# Altium schematic symbol library IC.SchLib: 22 symbols
Pins are listed as number, name and electrical type; pins without a type are passive.

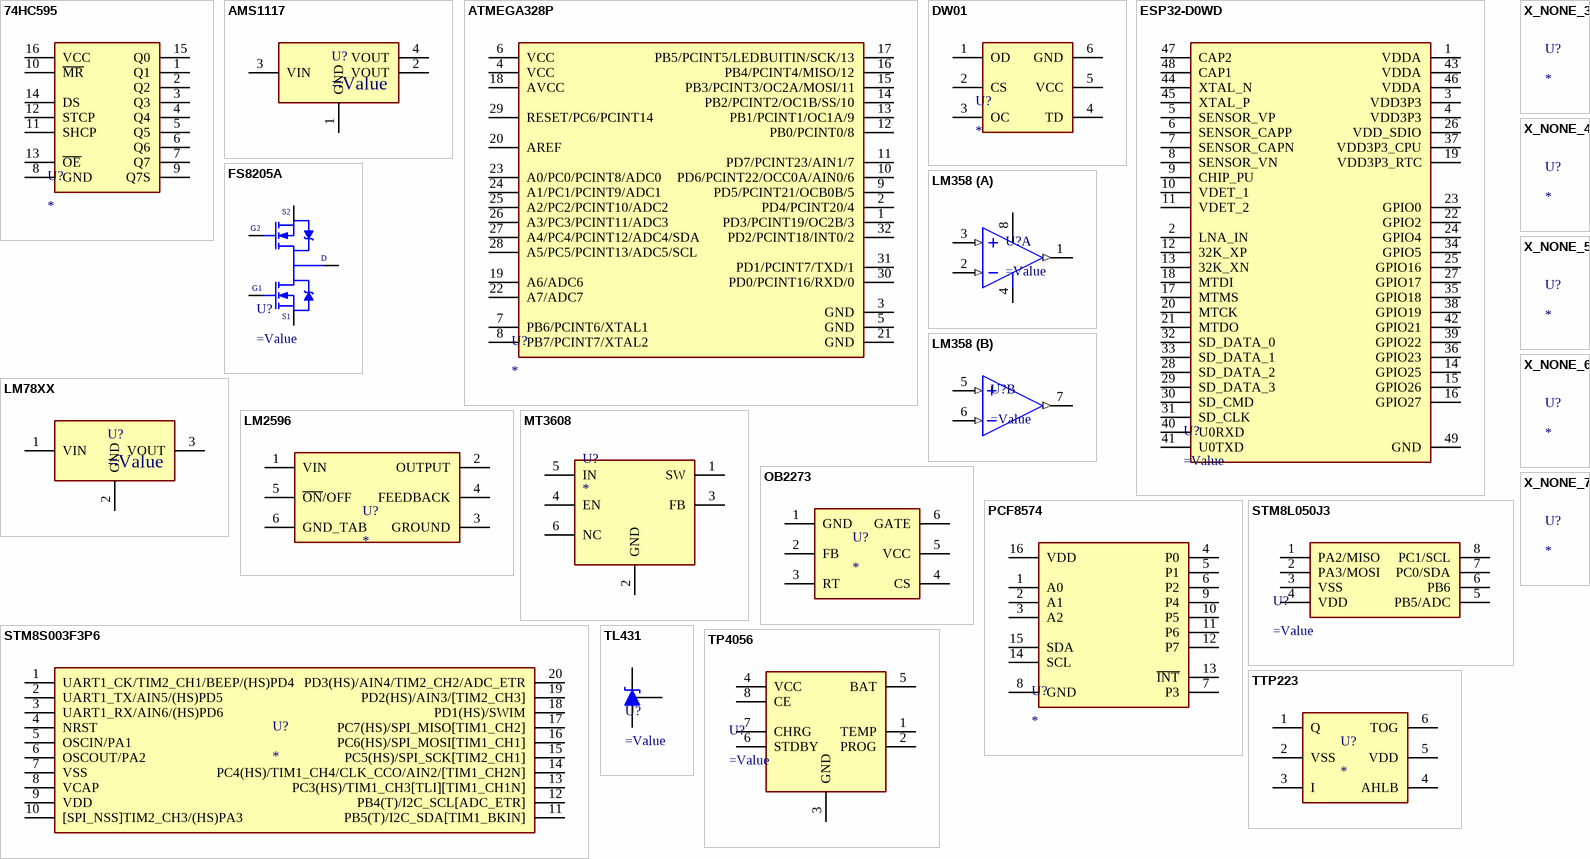
[diagram p0: symbols 74HC595 to X_NONE_7]

## 74HC595
designator U?
=Description; MP: STM8S003F3P6; MF: STMicroelectronics; Availability: Unavailable; SnapEDA_Link: https://www.snapeda.com/parts/STM8S003F3P6/STMicroelectronics/view-part/47650/?ref=snap; Price: None; Value: *; Package: TSSOP-20 STMicroelectronics
footprint TSSOP20
pins: 1 Q1, 2 Q2, 3 Q3, 4 Q4, 5 Q5, 6 Q6, 7 Q7, 8 GND, 9 Q7S, 10 ~{MR}, 11 SHCP, 12 STCP, 13 ~{OE}, 14 DS, 15 Q0, 16 VCC

## AMS1117
designator U?
=Description
pins: 1 GND (power), 2 VOUT, 3 VIN, 4 VOUT

## ATMEGA328P
designator U?
=Description; MP: STM8S003F3P6; MF: STMicroelectronics; Availability: Unavailable; SnapEDA_Link: https://www.snapeda.com/parts/STM8S003F3P6/STMicroelectronics/view-part/47650/?ref=snap; Price: None; Value: *; Package: TSSOP-20 STMicroelectronics
footprint TSSOP20
pins: 1 PD3/PCINT19/OC2B/3, 2 PD4/PCINT20/4, 3 GND, 4 VCC, 5 GND, 6 VCC, 7 PB6/PCINT6/XTAL1, 8 PB7/PCINT7/XTAL2, 9 PD5/PCINT21/OCB0B/5, 10 PD6/PCINT22/OCC0A/AIN0/6, 11 PD7/PCINT23/AIN1/7, 12 PB0/PCINT0/8, 13 PB1/PCINT1/OC1A/9, 14 PB2/PCINT2/OC1B/SS/10, 15 PB3/PCINT3/OC2A/MOSI/11, 16 PB4/PCINT4/MISO/12, 17 PB5/PCINT5/LEDBUITIN/SCK/13, 18 AVCC, 19 A6/ADC6, 20 AREF, 21 GND, 22 A7/ADC7, 23 A0/PC0/PCINT8/ADC0, 24 A1/PC1/PCINT9/ADC1, 25 A2/PC2/PCINT10/ADC2, 26 A3/PC3/PCINT11/ADC3, 27 A4/PC4/PCINT12/ADC4/SDA, 28 A5/PC5/PCINT13/ADC5/SCL, 29 RESET/PC6/PCINT14, 30 PD0/PCINT16/RXD/0, 31 PD1/PCINT7/TXD/1, 32 PD2/PCINT18/INT0/2

## DW01
designator U?
Lithium Protection DW01
pins: 1 OD, 2 CS, 3 OC, 4 TD, 5 VCC, 6 GND

## ESP32-D0WD
designator U?
=Description
pins: 1 VDDA (power), 2 LNA_IN, 3 VDD3P3 (power), 4 VDD3P3 (power), 5 SENSOR_VP, 6 SENSOR_CAPP, 7 SENSOR_CAPN, 8 SENSOR_VN, 9 CHIP_PU, 10 VDET_1, 11 VDET_2, 12 32K_XP, 13 32K_XN, 14 GPIO25, 15 GPIO26, 16 GPIO27, 17 MTMS, 18 MTDI, 19 VDD3P3_RTC (power), 20 MTCK, 21 MTDO, 22 GPIO2, 23 GPIO0, 24 GPIO4, 25 GPIO16, 26 VDD_SDIO (power), 27 GPIO17, 28 SD_DATA_2, 29 SD_DATA_3, 30 SD_CMD, 31 SD_CLK, 32 SD_DATA_0, 33 SD_DATA_1, 34 GPIO5, 35 GPIO18, 36 GPIO23, 37 VDD3P3_CPU (power), 38 GPIO19, 39 GPIO22, 40 U0RXD, 41 U0TXD, 42 GPIO21, 43 VDDA (power), 44 XTAL_N, 45 XTAL_P, 46 VDDA (power), 47 CAP2, 48 CAP1, 49 GND (power)

## FS8205A
designator U?
=Description
pins: 1 D12, 2 S1, 3 S1, 4 G1, 5 G2, 6 S2, 7 S2, 8 D12
text: D

## LM78XX
designator U?
=Description
pins: 1 VIN, 2 GND (power), 3 VOUT

## LM358
designator U?
=Description
part A pins: 1 OUT (out), 2 IN- (in), 3 IN+ (in), 4 -V, 8 +V
part B pins: 5 IN+ (in), 6 IN- (in), 7 OUT (out)

## LM2596
designator U?
=Description; MP: STM8S003F3P6; MF: STMicroelectronics; Availability: Unavailable; SnapEDA_Link: https://www.snapeda.com/parts/STM8S003F3P6/STMicroelectronics/view-part/47650/?ref=snap; Price: None; Value: *; Package: TSSOP-20 STMicroelectronics
footprint TSSOP20
pins: 1 VIN, 2 OUTPUT, 3 GROUND (power), 4 FEEDBACK, 5 ~{ON}/OFF, 6 GND_TAB (power)

## MT3608
designator U?
=Description; MF: Aerosemi Technology Co., Ltd; MP: MT3608; Package: Package Analog Devices; Availability: Unavailable; Value: *; SnapEDA_Link: https://www.snapeda.com/parts/MT3608/Aerosemi%20Technology%20Co.%2C%20Ltd/view-part/3218014/?ref=snap; Price: None
pins: 1 SW, 2 GND, 3 FB, 4 EN, 5 IN, 6 NC

## OB2273
designator U?
=Description; MP: STM8S003F3P6; MF: STMicroelectronics; Availability: Unavailable; SnapEDA_Link: https://www.snapeda.com/parts/STM8S003F3P6/STMicroelectronics/view-part/47650/?ref=snap; Price: None; Value: *; Package: TSSOP-20 STMicroelectronics
pins: 1 GND, 2 FB, 3 RT, 4 CS, 5 VCC, 6 GATE

## PCF8574
designator U?
=Description; MP: STM8S003F3P6; MF: STMicroelectronics; Availability: Unavailable; SnapEDA_Link: https://www.snapeda.com/parts/STM8S003F3P6/STMicroelectronics/view-part/47650/?ref=snap; Price: None; Value: *; Package: TSSOP-20 STMicroelectronics
footprint TSSOP20
pins: 1 A0, 2 A1, 3 A2, 4 P0, 5 P1, 6 P2, 7 P3, 8 GND, 9 P4, 10 P5, 11 P6, 12 P7, 13 ~{INT}, 14 SCL, 15 SDA, 16 VDD

## STM8L050J3
designator U?
=Description
pins: 1 PA2/MISO, 2 PA3/MOSI, 3 VSS, 4 VDD, 5 PB5/ADC, 6 PB6, 7 PC0/SDA, 8 PC1/SCL

## STM8S003F3P6
designator U?
=Description; MP: STM8S003F3P6; MF: STMicroelectronics; Availability: Unavailable; SnapEDA_Link: https://www.snapeda.com/parts/STM8S003F3P6/STMicroelectronics/view-part/47650/?ref=snap; Price: None; Value: *; Package: TSSOP-20 STMicroelectronics
pins: 1 UART1_CK/TIM2_CH1/BEEP/(HS)PD4, 2 UART1_TX/AIN5/(HS)PD5, 3 UART1_RX/AIN6/(HS)PD6, 4 NRST, 5 OSCIN/PA1, 6 OSCOUT/PA2, 7 VSS, 8 VCAP, 9 VDD, 10 [SPI_NSS]TIM2_CH3/(HS)PA3, 11 PB5(T)/I2C_SDA[TIM1_BKIN], 12 PB4(T)/I2C_SCL[ADC_ETR], 13 PC3(HS)/TIM1_CH3[TLI][TIM1_CH1N], 14 PC4(HS)/TIM1_CH4/CLK_CCO/AIN2/[TIM1_CH2N], 15 PC5(HS)/SPI_SCK[TIM2_CH1], 16 PC6(HS)/SPI_MOSI[TIM1_CH1], 17 PC7(HS)/SPI_MISO[TIM1_CH2], 18 PD1(HS)/SWIM, 19 PD2(HS)/AIN3/[TIM2_CH3], 20 PD3(HS)/AIN4/TIM2_CH2/ADC_ETR

## TL431
designator U?
=Description
pins: A, C, R

## TP4056
designator U?
=Description
pins: 1 TEMP, 2 PROG, 3 GND, 4 VCC, 5 BAT, 6 STDBY "Led báo đầy", 7 CHRG "Led báo sạc", 8 CE

## TTP223
designator U?
=Description; MP: STM8S003F3P6; MF: STMicroelectronics; Availability: Unavailable; SnapEDA_Link: https://www.snapeda.com/parts/STM8S003F3P6/STMicroelectronics/view-part/47650/?ref=snap; Price: None; Value: *; Package: TSSOP-20 STMicroelectronics
footprint TSSOP20
pins: 1 Q, 2 VSS, 3 I, 4 AHLB, 5 VDD, 6 TOG

## X_NONE_3
designator U?
=Description; MP: STM8S003F3P6; MF: STMicroelectronics; Availability: Unavailable; SnapEDA_Link: https://www.snapeda.com/parts/STM8S003F3P6/STMicroelectronics/view-part/47650/?ref=snap; Price: None; Value: *; Package: TSSOP-20 STMicroelectronics
footprint TSSOP20

## X_NONE_4
designator U?
=Description; MP: STM8S003F3P6; MF: STMicroelectronics; Availability: Unavailable; SnapEDA_Link: https://www.snapeda.com/parts/STM8S003F3P6/STMicroelectronics/view-part/47650/?ref=snap; Price: None; Value: *; Package: TSSOP-20 STMicroelectronics
footprint TSSOP20

## X_NONE_5
designator U?
=Description; MP: STM8S003F3P6; MF: STMicroelectronics; Availability: Unavailable; SnapEDA_Link: https://www.snapeda.com/parts/STM8S003F3P6/STMicroelectronics/view-part/47650/?ref=snap; Price: None; Value: *; Package: TSSOP-20 STMicroelectronics
footprint TSSOP20

## X_NONE_6
designator U?
=Description; MP: STM8S003F3P6; MF: STMicroelectronics; Availability: Unavailable; SnapEDA_Link: https://www.snapeda.com/parts/STM8S003F3P6/STMicroelectronics/view-part/47650/?ref=snap; Price: None; Value: *; Package: TSSOP-20 STMicroelectronics
footprint TSSOP20

## X_NONE_7
designator U?
=Description; MP: STM8S003F3P6; MF: STMicroelectronics; Availability: Unavailable; SnapEDA_Link: https://www.snapeda.com/parts/STM8S003F3P6/STMicroelectronics/view-part/47650/?ref=snap; Price: None; Value: *; Package: TSSOP-20 STMicroelectronics
footprint TSSOP20